# EAGLE library part S2G8_JUMP (library #PaJa_konektory)
Radove konektory - koliky - dvojite - 2x8
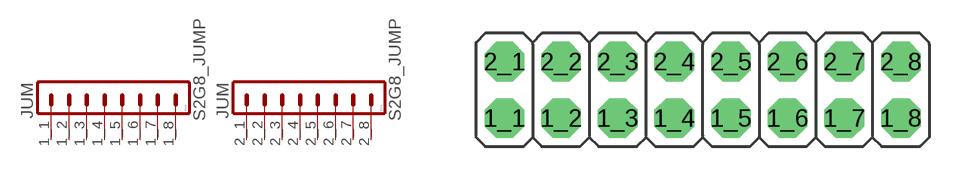
[diagram p31: symbol with the pads of S2G8_JUM; footprint S2G8_JUM]

Designator prefix JUM; gates 1=S1G8 2=S1G8

## S2G8_JUMP  [S2G8_JUM]
1_1  1:1  pas
1_2  1:2  pas
1_3  1:3  pas
1_4  1:4  pas
1_5  1:5  pas
1_6  1:6  pas
1_7  1:7  pas
1_8  1:8  pas
2_1  2:1  pas
2_2  2:2  pas
2_3  2:3  pas
2_4  2:4  pas
2_5  2:5  pas
2_6  2:6  pas
2_7  2:7  pas
2_8  2:8  pas

## Footprint S2G8_JUM (pad centres in mm)
drill 1.016 pad 1.778 octagon: 1_1 -8.89,-1.27; 1_2 -6.35,-1.27; 1_3 -3.81,-1.27; 1_4 -1.27,-1.27; 1_5 1.27,-1.27; 1_6 3.81,-1.27; 1_7 6.35,-1.27; 1_8 8.89,-1.27; 2_1 -8.89,1.27; 2_2 -6.35,1.27; 2_3 -3.81,1.27; 2_4 -1.27,1.27; 2_5 1.27,1.27; 2_6 3.81,1.27; 2_7 6.35,1.27; 2_8 8.89,1.27